# EAGLE library part MSTBV9 (library con-phoenix-508)
PHOENIX
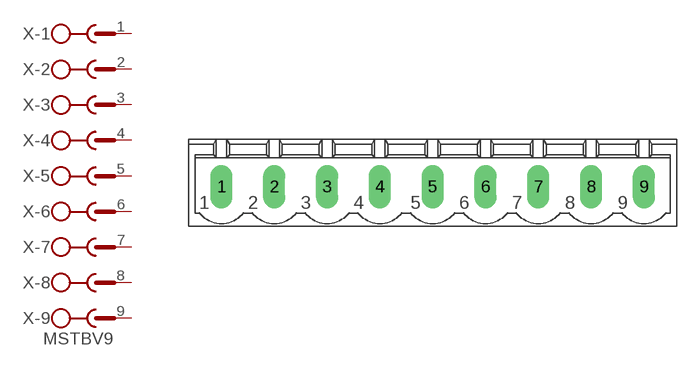
[diagram p45: symbol with the pads of MSTBV9; footprint MSTBV9]

Designator prefix X; gates -1=SK -2=SK -3=SK -4=SK -5=SK -6=SK -7=SK -8=SK -9=SKV

## MSTBV9 (MF: FARNELL; MPN: MSTBVA2,5/9-5,08; OC_FARNELL: 3705328; OC_NEWARK: 71C4149)  [MSTBV9]
1  -1:1  pas
2  -2:1  pas
3  -3:1  pas
4  -4:1  pas
5  -5:1  pas
6  -6:1  pas
7  -7:1  pas
8  -8:1  pas
9  -9:1  pas

## Footprint MSTBV9 (pad centres in mm)
PHOENIX
drill 1.397 long: 1 -20.32,0; 2 -15.24,0; 3 -10.16,0; 4 -5.08,0; 5 0,0; 6 5.08,0; 7 10.16,0; 8 15.24,0; 9 20.32,0